# Altium schematic symbol library Diode.SchLib: 5 symbols
Pins are listed as number, name and electrical type; pins without a type are passive.

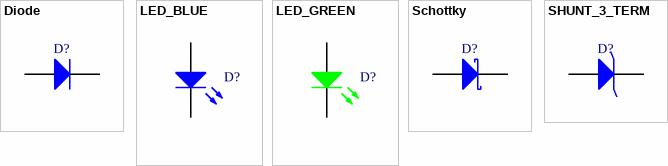
[diagram p0: symbols Diode to SHUNT_3_TERM]

## Diode
designator D?
pins: 1 K, 2 A

## LED_BLUE
designator D?
pins: 1 A, 2 K

## LED_GREEN
designator D?
pins: 1 A, 2 K

## Schottky
designator D?
pins: 1 K, 2 A

## SHUNT_3_TERM
designator D?
pins: 1, 2, 3 hidden